# Altium footprint library Silicon.PcbLib: 10 footprints
Each footprint in its own frame and in the unit in brackets; x right, y up, seen from the top. Pads: shape width x height; smd on the part's side, far side on the other; paste and mask are expansions set on the pad; w line width, h text height; cw(c..) or ccw(c..) is an arc to the next point about the centre after c.
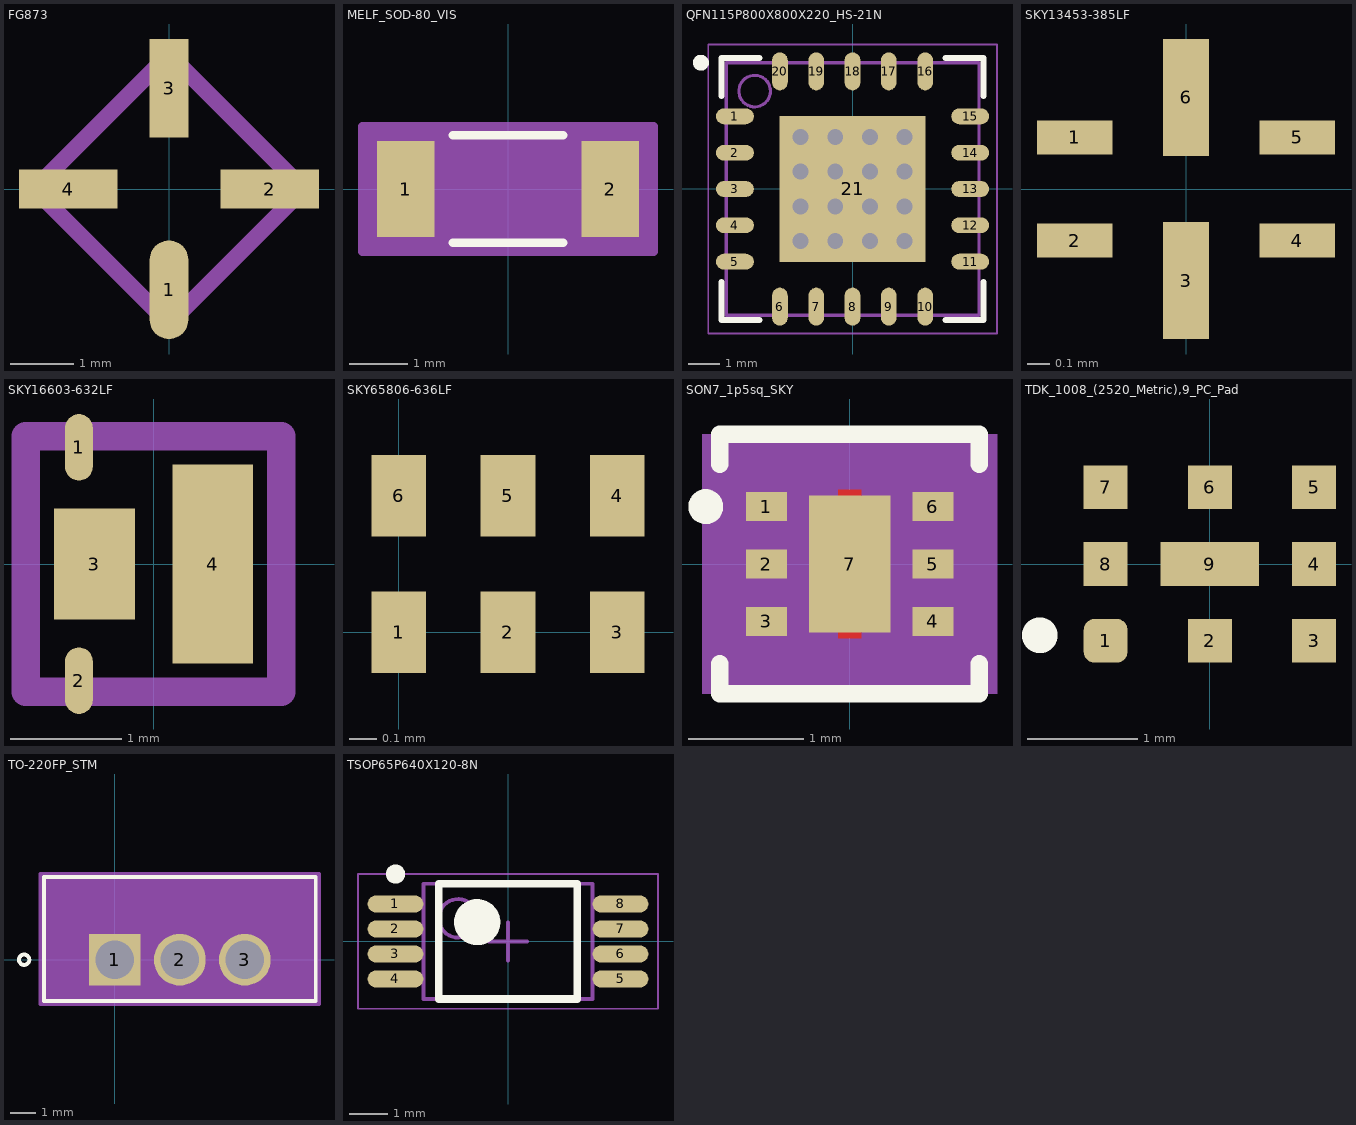
[diagram p0: the footprints below, top view; thin cyan lines are the x and y axes]

## FG873 [mm] "Minicircuits package"
pads (4):
  oval 0.61x1.55 smd: 1(0,-1.585)
  rect 1.55x0.61 smd: 2(1.585,0) 4(-1.585,0)
  rect 0.61x1.55 smd: 3(0,1.585)
Mechanical 15:
  lines w0.254: -2.121,0 0,2.121 2.121,0 0,-2.121 -2.121,0

## MELF_SOD-80_VIS [mil]
pads (2):
  rect 39x65 smd paste+0 mask+0: 1(-69.5,0) 2(69.5,0)
Top Overlay:
  lines w6: -37.53,-36.5 37.53,-36.5 ; -37.53,36.5 37.53,36.5
Mechanical 5:
  region: 96.5,-40 -96.5,-40 -96.5,40 96.5,40
Mechanical 13:
  lines w1: -73,-15.75 -57.25,-31.5 ; -73,15.75 -57.25,31.5 ; -73,-31.5 73,-31.5 73,31.5 -73,31.5 -73,-31.5
Mechanical 15:
  region: 99,-42.5 -99,-42.5 -99,42.5 99,42.5
  lines w6: -99,-42.5 -99,42.5 99,42.5 99,-42.5 -99,-42.5
3D body "MELF_SOD-80_VIS.step": height 62.75, standoff 0, extent -72.99,-31.44 72.99,31.44

## QFN115P800X800X220_HS-21N [mm] "QFN, 20-Leads, Body 8.00x8.00mm, Pitch 1.15mm, Thermal Pad 4.63x4.62mm, IPC Medium Density"
height 2.2
pads (21):
  oval 1.2x0.5 smd: 1(-3.725,2.3) 2(-3.725,1.15) 3(-3.725,0) 4(-3.725,-1.15) 5(-3.725,-2.3) 11(3.725,-2.3) 12(3.725,-1.15) 13(3.725,0) 14(3.725,1.15) 15(3.725,2.3)
  oval 0.5x1.2 smd: 6(-2.3,-3.725) 7(-1.15,-3.725) 8(0,-3.725) 9(1.15,-3.725) 10(2.3,-3.725) 16(2.3,3.725) 17(1.15,3.725) 18(0,3.725) 19(-1.15,3.725) 20(-2.3,3.725)
  rect 4.63x4.62 smd: 21(0,0)
via 1.65,-1.65 diameter 1 hole 0.5
via 0.55,-1.65 diameter 1 hole 0.5
via -0.55,-1.65 diameter 1 hole 0.5
via -1.65,-1.65 diameter 1 hole 0.5
via 1.65,-0.55 diameter 1 hole 0.5
via 0.55,-0.55 diameter 1 hole 0.5
via -0.55,-0.55 diameter 1 hole 0.5
via -1.65,-0.55 diameter 1 hole 0.5
via 1.65,0.55 diameter 1 hole 0.5
via 0.55,0.55 diameter 1 hole 0.5
via -0.55,0.55 diameter 1 hole 0.5
via -1.65,0.55 diameter 1 hole 0.5
via 1.65,1.65 diameter 1 hole 0.5
via 0.55,1.65 diameter 1 hole 0.5
via -0.55,1.65 diameter 1 hole 0.5
via -1.65,1.65 diameter 1 hole 0.5
Top Overlay:
  circle w0.25: c-4.8,4 r0.125
  lines w0.2: -4.15,-2.95 -4.15,-4.15 -2.95,-4.15 ; -4.15,2.95 -4.15,4.15 -2.95,4.15 ; 2.95,-4.15 4.15,-4.15 4.15,-2.95 ; 2.95,4.15 4.15,4.15 4.15,2.95
Mechanical 13:
  circle w0.1: c-3.1,3.1 r0.5
  lines w0.1: -4,-4 4,-4 4,4 -4,4 -4,-4
Mechanical 15:
  lines w0.05: -4.575,-4.575 4.575,-4.575 4.575,4.575 -4.575,4.575 -4.575,-4.575
  lines w0.1: -0.5,0 0.5,0 ; 0,-0.5 0,0.5
3D body "QFN115P800X800X220_HS-21N.step": height 2.2, standoff 0, extent -4.01,-4.01 4.01,4.01

## SKY13453-385LF [mm]
pads (6):
  rect 0.33x0.15 smd: 1(-0.485,0.225) 2(-0.485,-0.225) 4(0.485,-0.225) 5(0.485,0.225)
  rect 0.2x0.51 smd: 3(0,-0.4) 6(0,0.4)
3D body: height 0.5, standoff 0, extent -0.5,-0.5 0.5,0.5

## SKY16603-632LF [mm]
pads (4):
  oval 0.25x0.6 smd: 1(-0.672,1.05) 2(-0.672,-1.05)
  rect 0.726x1 smd: 3(-0.532,0)
  rect 0.726x1.792 smd: 4(0.532,0)
Mechanical 15:
  lines w0.254: -1.15,-1.15 1.15,-1.15 1.15,1.15 -1.15,1.15 -1.15,-1.15

## SKY65806-636LF [mm]
pads (6):
  rect 0.2x0.3 smd: 1(0,0) 2(0.4,0) 3(0.8,0) 4(0.8,0.5) 5(0.4,0.5) 6(0,0.5)
3D body: height 0.55, standoff 0.05, extent -0.15,-0.1 0.95,0.6

## SON7_1p5sq_SKY [mil]
pads (7):
  rect 14x10 smd paste-5 mask+0: 1(-28.54,19.68) 2(-28.54,0) 3(-28.54,-19.68) 4(28.54,-19.68) 5(28.54,0) 6(28.54,19.68)
  rect 28x47 smd paste-14: 7(0,0)
Top Layer:
  region: 4,20 -4,20 -4,25.5 4,25.5
  region: 4,-20 -4,-20 -4,-25.5 4,-25.5
Top Overlay:
  circle w6: c-49.39,19.68 r3
  lines w6: -44.5,-34.24 -44.5,-44.5 44.5,-44.5 44.5,-34.24 ; -44.5,34.24 -44.5,44.5 44.5,44.5 44.5,34.24
Top Paste:
  region: -21.54,24.68 -35.54,24.68 -35.54,14.69 -21.54,14.69
  region: -21.54,5 -35.54,5 -35.54,-5 -21.54,-5
  region: -21.54,-14.69 -35.54,-14.69 -35.54,-24.68 -21.54,-24.68
  region: 35.54,-14.69 21.54,-14.69 21.54,-24.68 35.54,-24.68
  region: 35.54,5 21.54,5 21.54,-5 35.54,-5
  region: 35.54,24.68 21.54,24.68 21.54,14.69 35.54,14.69
Top Solder:
  region: -21.54,24.68 -35.54,24.68 -35.54,14.69 -21.54,14.69
  region: -21.54,5 -35.54,5 -35.54,-5 -21.54,-5
  region: -21.54,-14.69 -35.54,-14.69 -35.54,-24.68 -21.54,-24.68
  region: 35.54,-14.69 21.54,-14.69 21.54,-24.68 35.54,-24.68
  region: 35.54,5 21.54,5 21.54,-5 35.54,-5
  region: 35.54,24.68 21.54,24.68 21.54,14.69 35.54,14.69
  region: 4,23.5 -4,23.5 -4,25.5 4,25.5 4,23.5
  region: 4,-23.5 -4,-23.5 -4,-25.5 4,-25.5 4,-23.5
Mechanical 5:
  region: 50.54,-44.5 -50.54,-44.5 -50.54,44.5 50.54,44.5
Mechanical 13:
  circle w0: c-21.54,19.68 r3
  lines w0: -12,29.5 ccw(c0,29.5) 12,29.5
  lines w1: -29.5,-29.5 29.5,-29.5 29.5,29.5 -29.5,29.5 -29.5,-29.5
Mechanical 15:
  region: -39.5,-31.53 -45.54,-31.53 -45.54,31.53 -39.5,31.53 -39.5,39.5 39.5,39.5 39.5,31.53 45.54,31.53 45.54,-31.53 39.5,-31.53 39.5,-39.5 -39.5,-39.5
  lines w6: -45.54,-31.53 -45.54,31.53 -39.5,31.53 -39.5,39.5 39.5,39.5 39.5,31.53 45.54,31.53 45.54,-31.53 39.5,-31.53 39.5,-39.5 -39.5,-39.5 -39.5,-31.53 -45.54,-31.53
3D body: height 10, standoff 0, extent 0,0 10,10

## TDK_1008_(2520_Metric),9_PC_Pad [mm]
pads (9):
  rrect50% 0.4x0.4 smd: 1(-0.95,-0.7)
  rect 0.4x0.4 smd: 2(0,-0.7) 3(0.95,-0.7) 4(0.95,0) 5(0.95,0.7) 6(0,0.7) 7(-0.95,0.7) 8(-0.95,0)
  rect 0.9x0.4 smd: 9(0,0)
Top Overlay:
  circle w0.254: c-1.55,-0.65 r0.035

## TO-220FP_STM [mil]
pads (3):
  rect 80x80 hole 60: 1(0,0)
  round 80 hole 60: 2(100.39,0) 3(200.79,0)
Top Overlay:
  circle w6: c-140,0 r8
  lines w6: -109.61,-63.5 -109.61,127.5 310.39,127.5 310.39,-63.5 -109.61,-63.5
Mechanical 13:
  circle w0: c-84.61,0 r8
  lines w1: -104.61,-58.5 -104.61,122.5 305.39,122.5 305.39,-58.5 -104.61,-58.5
  lines w6: -10,0 10,0 ; 0,-10 0,10
Mechanical 15:
  region: 315.39,-68.5 -114.61,-68.5 -114.61,132.5 315.39,132.5
  lines w6: -114.61,-68.5 315.39,-68.5 315.39,132.5 -114.61,132.5 -114.61,-68.5
3D body "TO-220FP_STM.step": height 645.98, standoff -242.01, extent -104.61,-58.5 305.39,122.52

## TSOP65P640X120-8N [mm] "TSOP, 8-Leads, Body 3.00x4.40mm, Pitch 0.65mm, IPC Medium Density"
height 1.2
pads (8):
  oval 1.45x0.45 smd: 1(-2.925,0.975) 2(-2.925,0.325) 3(-2.925,-0.325) 4(-2.925,-0.975) 5(2.925,-0.975) 6(2.925,-0.325) 7(2.925,0.325) 8(2.925,0.975)
Top Overlay:
  circle w0.6: c-0.8,0.5 r0.3
  circle w0.25: c-2.925,1.75 r0.125
  lines w0.2: -1.8,-1.5 1.8,-1.5 1.8,1.5 -1.8,1.5 -1.8,-1.5
Mechanical 13:
  circle w0.1: c-1.3,0.6 r0.5
  lines w0.1: -2.2,-1.5 2.2,-1.5 2.2,1.5 -2.2,1.5 -2.2,-1.5
Mechanical 15:
  lines w0.05: -3.9,-1.75 3.9,-1.75 3.9,1.75 -3.9,1.75 -3.9,-1.75
  lines w0.1: -0.5,0 0.5,0 ; 0,-0.5 0,0.5
3D body "TSOP65P640X120-8N.step": height 1.2, standoff 0, extent -3.2,-1.5 3.2,1.5